# EAGLE library part ATTINY2313 (library __MyCommonLib1)
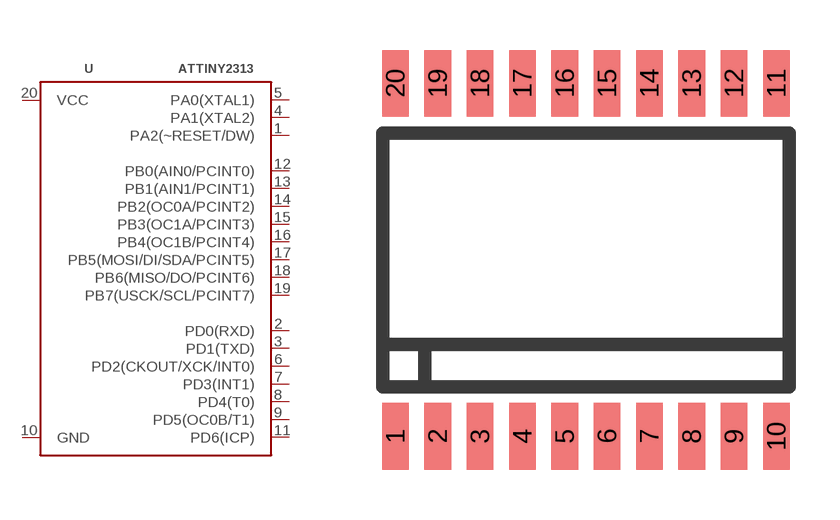
[diagram p6: symbol with the pads of SOIC20; footprint SOIC20]

Designator prefix -

## ATTINY2313SOIC20  [SOIC20]
1  PA2(~RESET/DW)
2  PD0(RXD)
3  PD1(TXD)
4  PA1(XTAL2)
5  PA0(XTAL1)
6  PD2(CKOUT/XCK/INT0)
7  PD3(INT1)
8  PD4(T0)
9  PD5(OC0B/T1)
10  GND
11  PD6(ICP)
12  PB0(AIN0/PCINT0)
13  PB1(AIN1/PCINT1)
14  PB2(OC0A/PCINT2)
15  PB3(OC1A/PCINT3)
16  PB4(OC1B/PCINT4)
17  PB5(MOSI/DI/SDA/PCINT5)
18  PB6(MISO/DO/PCINT6)
19  PB7(USCK/SCL/PCINT7)
20  VCC

## Footprint SOIC20 (pad centres in mm)
smd 0.8 x 2: 1 -5.715,-5.3; 2 -4.445,-5.3; 3 -3.175,-5.3; 4 -1.905,-5.3; 5 -0.635,-5.3; 6 0.635,-5.3; 7 1.905,-5.3; 8 3.175,-5.3; 9 4.445,-5.3; 10 5.715,-5.3; 11 5.715,5.3; 12 4.445,5.3; 13 3.175,5.3; 14 1.905,5.3; 15 0.635,5.3; 16 -0.635,5.3; 17 -1.905,5.3; 18 -3.175,5.3; 19 -4.445,5.3; 20 -5.715,5.3